# Altium footprint library 61304011121-3.PcbLib: 1 footprints
Each footprint in its own frame and in the unit in brackets; x right, y up, seen from the top. Pads: shape width x height; smd on the part's side, far side on the other; paste and mask are expansions set on the pad; w line width, h text height; cw(c..) or ccw(c..) is an arc to the next point about the centre after c.
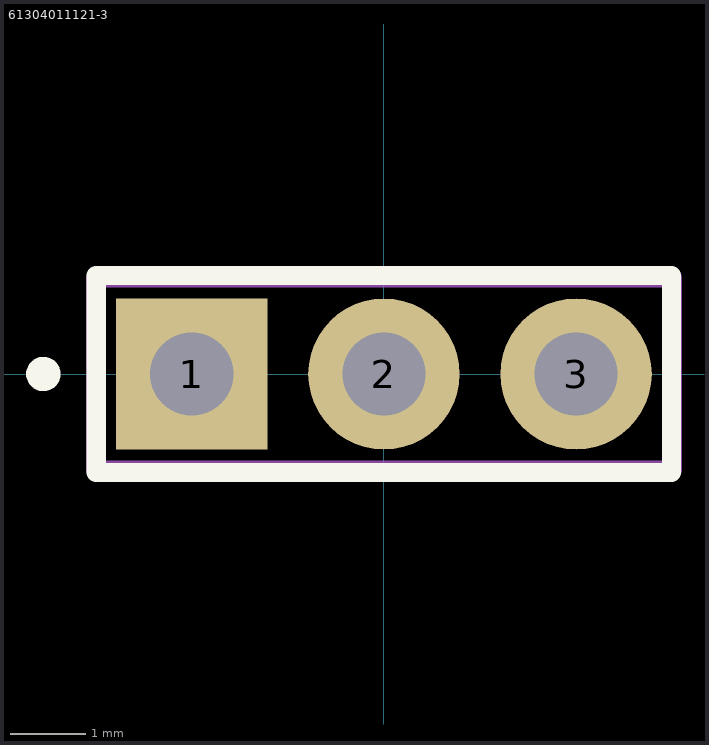
[diagram p0: the footprint, top view; thin cyan lines are the x and y axes]

## 61304011121-3 [mm]
pads (3):
  rect 2x2 hole 1.1 mask+0.051: 1(-2.54,0)
  round 2 hole 1.1 mask+0.051: 2(0,0) 3(2.54,0)
Top Overlay:
  circle w0.254: c-4.5,0 r0.1
  lines w0.254: -3.8,0 -3.8,-1.3 ; 3.8,0 3.8,1.3 ; -3.8,-1.3 3.8,-1.3 3.8,1.3 ; -3.8,-1.3 -3.8,1.3 3.8,1.3
Mechanical 13:
  lines w0.254: -3.81,-1.27 3.81,-1.27 3.81,1.27 3.683,1.27 -3.81,1.27 -3.81,-1.27
Mechanical 15:
  lines w0.254: -0.4,0 0,0 ; 0,0.05 0,0 ; 0.5,0 0,0 ; 0,0 0,-0.4 0,0.5 0,0
3D body "61304011121-3.stp": height 8.34, standoff -3.05, extent -3.81,-1.272 3.81,1.268